# Altium footprint library CCjammerRev2.PcbLib: 6 footprints
Each footprint in its own frame and in the unit in brackets; x right, y up, seen from the top. Pads: shape width x height; smd on the part's side, far side on the other; paste and mask are expansions set on the pad; w line width, h text height; cw(c..) or ccw(c..) is an arc to the next point about the centre after c.
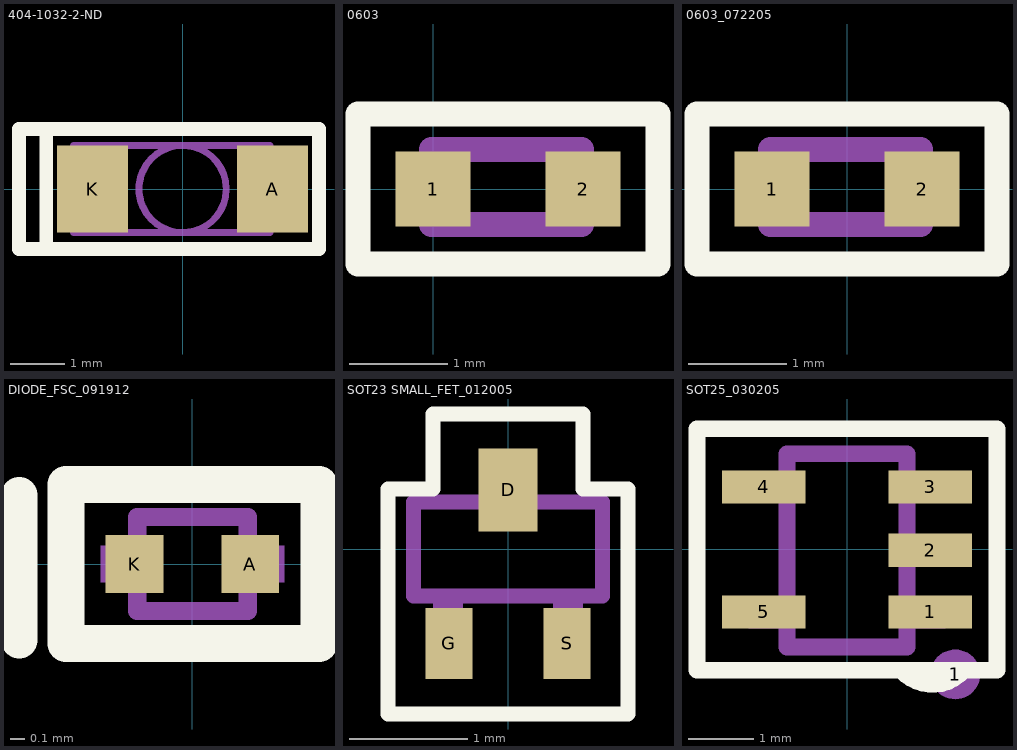
[diagram p0: the footprints below, top view; thin cyan lines are the x and y axes]

## 404-1032-2-ND [mm]
pads (2):
  rect 1.3x1.6 smd: A(1.65,0) K(-1.65,0)
Top Overlay:
  lines w0.25: -2.5,-1.1 -3,-1.1 -3,1.1 -2.5,1.1 ; -2.5,-1.1 2.5,-1.1 2.5,1.1 -2.5,1.1 ; -2.5,-1.1 -2.5,1.1
Mechanical 1:
  circle w0.127: c0,0 r0.8
  lines w0.127: 0,0.8 1.6,0.8 ; -1.6,-0.8 1.6,-0.8 1.6,0.8 ; -1.6,-0.8 -1.6,0.8 ; -1.6,-0.8 -2,-0.8 -2,0.8 -1.6,0.8 ; -1.6,0.8 1.6,0.8
Mechanical 8:
  text ".Designator" at -2.362,-0.258 h0.5

## 0603 [mil]
pads (2):
  rect 30x30 smd: 1(0,0) 2(60,0)
Top Overlay:
  lines w10: -30,-30 90,-30 90,30 -30,30 -30,0 -30,-30
Mechanical 1:
  lines w10: -0.53,-14.25 -0.53,15.75 59.47,15.75 59.47,-14.25 -0.53,-14.25

## 0603_072205 [mil] "SM"
height 20
pads (2):
  rect 30x30 smd: 1(-30,0) 2(30,0)
Top Overlay:
  lines w10: -60,-30 60,-30 60,30 -60,30 -60,0 -60,-30
Mechanical 1:
  lines w10: -30.53,-14.25 -30.53,15.75 29.47,15.75 29.47,-14.25 -30.53,-14.25
Mechanical 8:
  text ".Designator" at 26,61 h30
Mechanical 9:
  text ".Comment" at -55.12,-73.82 h40

## DIODE_FSC_091912 [mm] "SMT"
height 0.48
pads (2):
  rect 0.4x0.4 smd: A(0.4,0) K(-0.4,0)
Top Overlay:
  lines w0.254: -1.2,-0.525 -1.2,0.475 ; -0.875,-0.55 -0.875,0.55 ; -0.875,-0.55 -0.875,0.55 ; -0.875,-0.55 0.875,-0.55 ; -0.875,0.55 0.875,0.55 ; 0.875,-0.55 0.875,0.55 ; 0.875,-0.55 0.875,0.55
Mechanical 1:
  region: -0.381,0.127 -0.635,0.127 -0.635,-0.127 -0.381,-0.127
  rectangle: 0.381,-0.127 0.635,0.127
  lines w0.127: -0.381,-0.325 0.381,-0.325 0.381,0.325 -0.381,0.325 -0.381,-0.325
Mechanical 8:
  text ".Designator" at -1.45,0.925 h0.76
Mechanical 9:
  text ".Comment" at -2.65,-1.875 h1.02

## SOT23 SMALL_FET_012005 [mm] "SMT"
height 0.7
pads (3):
  rect 0.5x0.7 smd: D(0,0.5)
  rect 0.4x0.6 smd: G(-0.5,-0.8) S(0.5,-0.8)
Top Overlay:
  lines w0.127: -1.016,-1.397 -1.016,0.508 -0.635,0.508 -0.635,1.143 0.635,1.143 0.635,0.508 1.016,0.508 1.016,-1.397 -1.016,-1.397
Mechanical 1:
  rectangle: -0.635,-0.889 -0.381,-0.4
  rectangle: 0.381,-0.889 0.635,-0.4
  rectangle: -0.127,0.4 0.127,0.762
  lines w0.127: -0.8,-0.4 -0.8,0.4 0.8,0.4 0.8,-0.4 -0.8,-0.4
Mechanical 8:
  text ".Designator" at 0.457,0.356 h0.76
Mechanical 9:
  text ".Comment" at -2.159,-2.54 h1.02

## SOT25_030205 [mil] "SMT"
height 40
pads (6):
  rect 50x20 smd: 1(50,-37.5) 2(50,-0.5) 3(50,37.5) 4(-50,37.5) 5(-50,-37.5)
  round 30 on Mech1: 1(65,-75)
Top Overlay:
  lines w10: 35,-75 ccw(c51.25,-56.25) 70,-72.5 ; -90,-72.5 -90,72.5 90,72.5 90,37.5 90,-72.5 -90,-72.5
Mechanical 1:
  lines w10: -36,-42.5 -58,-42.5 -58,-34.5 -36,-34.5 ; -36,33.5 -58,33.5 -58,41.5 -36,41.5 ; 36,-42.5 58,-42.5 58,-34.5 36,-34.5 ; 36,-4.5 58,-4.5 58,3.5 36,3.5 ; 36,31.5 38,33.5 58,33.5 58,41.5 36,41.5 ; -36,-58.5 -36,57.5 36,57.5 36,-58.5 -36,-58.5
Mechanical 8:
  text ".Designator" at 21,14 h30
Mechanical 9:
  text ".Comment" at 90,65 h40